# EAGLE library part CONNECTOR (library wolf_rev_c)
Connector Pads for Gameboy Cartridges
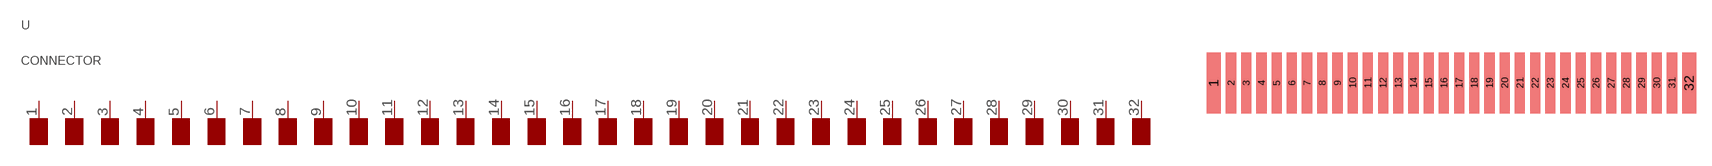
[diagram p2: symbol with the pads of CONNECTOR; footprint CONNECTOR]

Designator prefix -

## CONNECTOR  [CONNECTOR]
1  VDD  pwr
2  NC  nc
3  /WR
4  /RD
5  /RCS
6  A0
7  A1
8  A2
9  A3
10  A4
11  A5
12  A6
13  A7
14  A8
15  A9
16  A10
17  A11
18  A12
19  A13
20  A14
21  A15
22  D0
23  D1
24  D2
25  D3
26  D4
27  D5
28  D6
29  D7
30  /RS
31  VIN
32  GND  pwr

## Footprint CONNECTOR (pad centres in mm)
Connector Pads for Gameboy Cartridges
smd 1.4 x 6: 1 0.7,-3; 32 47.6,-3
smd 1 x 6: 2 2.4,-3; 3 3.9,-3; 4 5.4,-3; 5 6.9,-3; 6 8.4,-3; 7 9.9,-3; 8 11.4,-3; 9 12.9,-3; 10 14.4,-3; 11 15.9,-3; 12 17.4,-3; 13 18.9,-3; 14 20.4,-3; 15 21.9,-3; 16 23.4,-3; 17 24.9,-3; 18 26.4,-3; 19 27.9,-3; 20 29.4,-3; 21 30.9,-3; 22 32.4,-3; 23 33.9,-3; 24 35.4,-3; 25 36.9,-3; 26 38.4,-3; 27 39.9,-3; 28 41.4,-3; 29 42.9,-3; 30 44.4,-3; 31 45.9,-3